# Altium schematic symbol library MC78L05ABDR2G.Schlib: 1 symbol
Pins are listed as number, name and electrical type; pins without a type are passive.

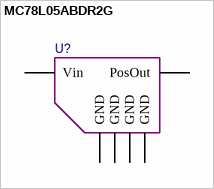
[diagram p0: symbol MC78L05ABDR2G]

## MC78L05ABDR2G
designator U?  (value not drawn)
pins: 1 PosOut, 2 GND, 3 GND, 6 GND, 7 GND, 8 Vin